# Altium schematic symbol library STM32C092FCP6.SchLib: 1 symbol
Pins are listed as number, name and electrical type; pins without a type are passive.

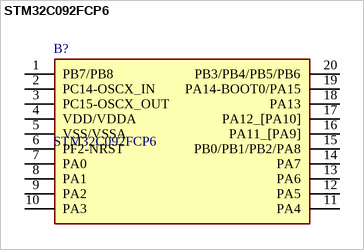
[diagram p0: symbol STM32C092FCP6]

## STM32C092FCP6
designator B?
Mainstream Arm Cortex-M0+ MCU with 256 Kbytes of Flash memory, 30 Kbytes RAM, 48 MHz CPU, 4x USART, timers, ADC, comm. I/F, 2-3.6V; Manufacturer_Name: STMicroelectronics; Geometry.Height: 1.2mm; Mouser Part Number: *; Mouser Price/Stock: *; Manufacturer_Part_Number: STM32C092FCP6; Datasheet Link: https://www.st.com/resource/en/datasheet/stm32c091cb.pdf
footprint SOP65P640X120-20N
pins: 1 PB7/PB8, 2 PC14-OSCX_IN, 3 PC15-OSCX_OUT, 4 VDD/VDDA, 5 VSS/VSSA, 6 PF2-NRST, 7 PA0, 8 PA1, 9 PA2, 10 PA3, 11 PA4, 12 PA5, 13 PA6, 14 PA7, 15 PB0/PB1/PB2/PA8, 16 PA11_[PA9], 17 PA12_[PA10], 18 PA13, 19 PA14-BOOT0/PA15, 20 PB3/PB4/PB5/PB6